# Altium footprint library ESC_PCB.PcbLib: 30 footprints (part 1 of 2)
Each footprint in its own frame and in the unit in brackets; x right, y up, seen from the top. Pads: shape width x height; smd on the part's side, far side on the other; paste and mask are expansions set on the pad; w line width, h text height; cw(c..) or ccw(c..) is an arc to the next point about the centre after c.
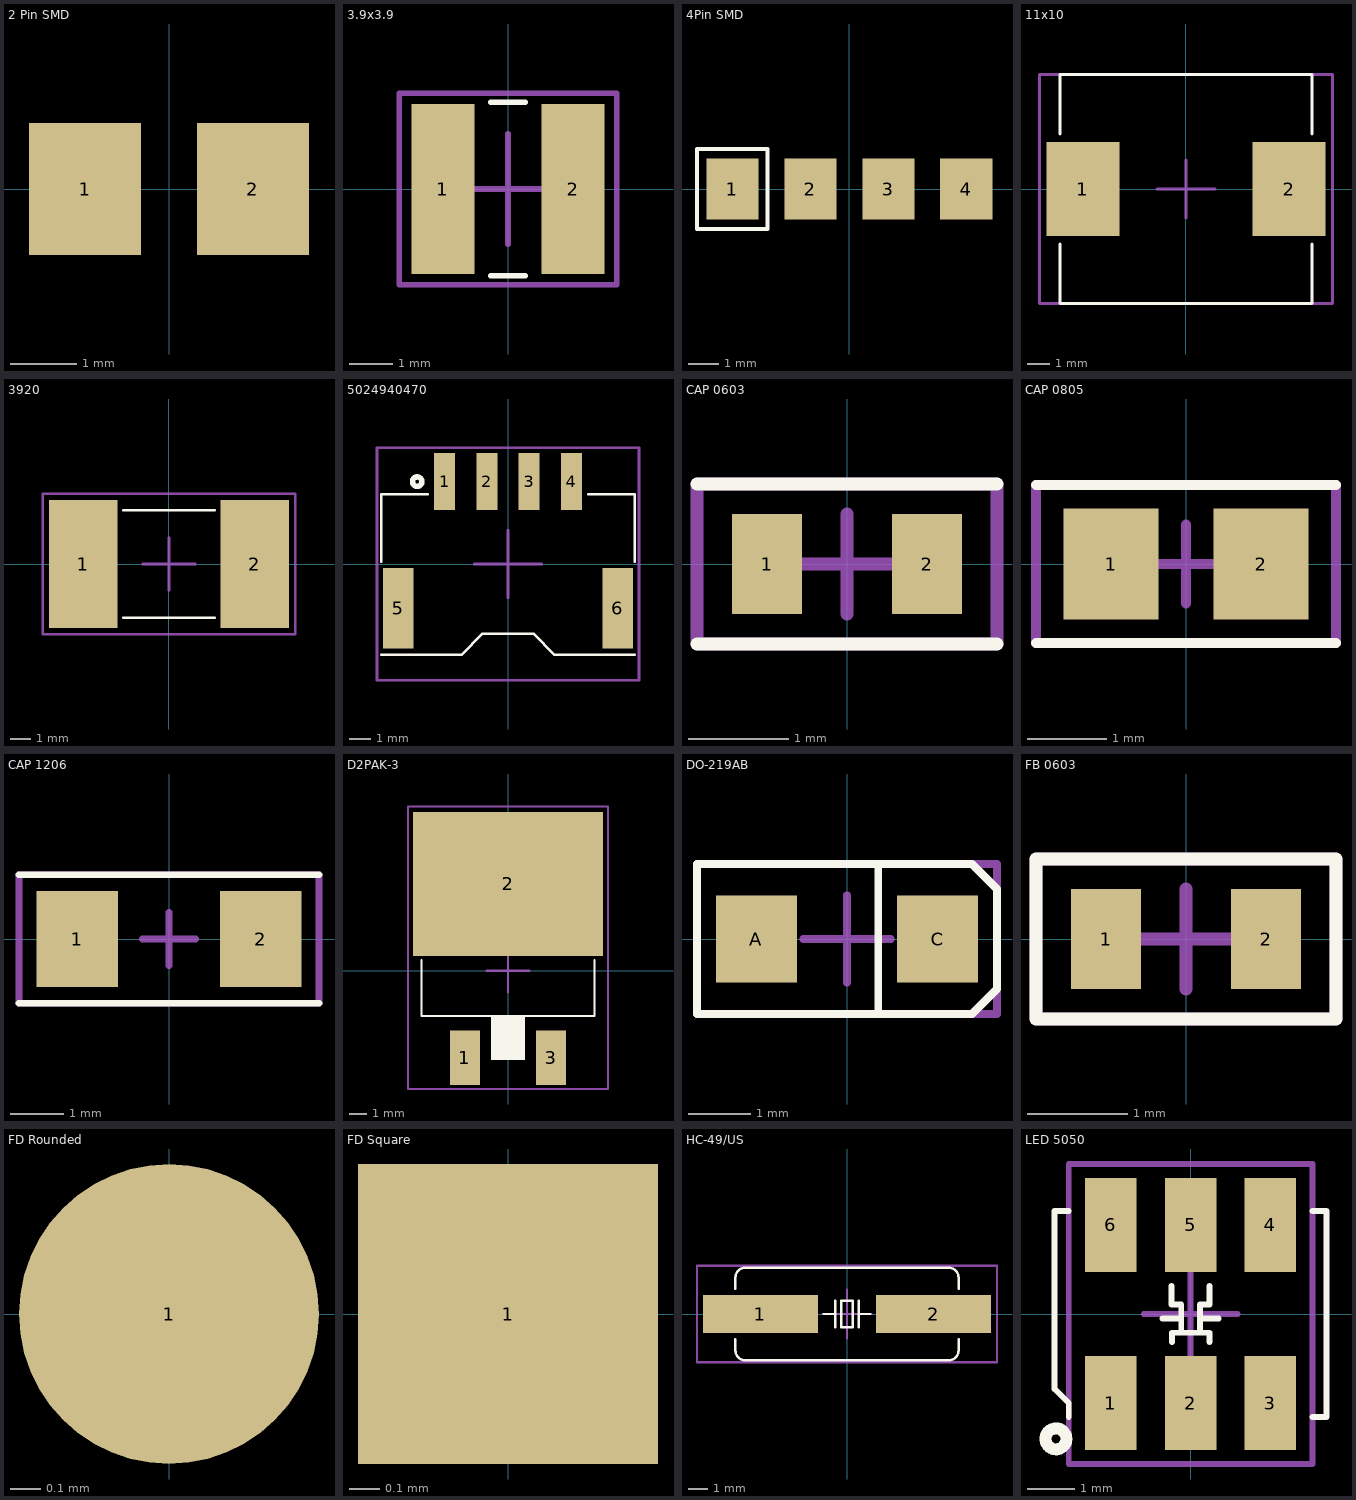
[diagram p0: the footprints below, top view; thin cyan lines are the x and y axes]

## 2 Pin SMD [mm]
pads (2):
  rect 1.7x2 smd: 1(-1.27,0) 2(1.27,0)

## 3.9x3.9 [mm]
pads (2):
  rect 1.45x3.9 smd: 1(-1.5,0) 2(1.5,0)
Top Overlay:
  lines w0.127: -0.4,-2 0,-2 0.4,-2 ; -0.4,2 0,2 0.4,2
Top Component Center:
  lines w0.127: -1.27,0 0,0 ; 0,-1.27 0,0 ; 0,1.27 0,0 ; 1.27,0 0,0 ; -2.5,-2.2 0,-2.2 2.5,-2.2 2.5,0 2.5,2.2 0,2.2 -2.5,2.2 -2.5,0 -2.5,-2.2
Top Designator:
  lines w0.127: -2.5,-2.2 -2.5,0 -2.5,2.2 0,2.2 2.5,2.2 2.5,0 2.5,-2.2 0,-2.2 -2.5,-2.2
  text ".Designator" at -0.748,-0.294 h0.76
3D body "LPS4018-183MRC.STEP": height 1.8, standoff 0, extent -1.95,-1.95 1.95,1.95

## 4Pin SMD [mm]
pads (4):
  rect 1.7x2 smd: 1(-3.81,0) 2(-1.27,0) 3(1.27,0) 4(3.81,0)
Top Overlay:
  lines w0.127: -4.965,-1.3 -2.665,-1.3 -2.665,0 -2.665,1.3 -4.965,1.3 -4.965,0 -4.965,-1.3

## 11x10 [mm]
pads (2):
  rect 3.2x4.1 smd: 1(-4.5,0) 2(4.5,0)
Top Overlay:
  lines w0.127: -5.5,-2.4 -5.5,-5 0,-5 5.5,-5 5.5,-2.4 ; -5.5,2.4 -5.5,5 0,5 5.5,5 5.5,2.4
Top Component Center:
  lines w0.127: -1.27,0 0,0 ; 0,-1.27 0,0 ; 0,1.27 0,0 ; 1.27,0 0,0 ; -6.4,-5 -6.4,0 -6.4,5 0,5 6.4,5 6.4,0 6.4,-5 0,-5 -6.4,-5
Top Designator:
  lines w0.127: -6.4,-5 -6.4,0 -6.4,5 0,5 6.4,5 6.4,0 6.4,-5 0,-5 -6.4,-5
  text ".Designator" at -1.048,-0.294 h0.76
3D body "WE-LHMI_1040+(rev1).stp": height 3.7, standoff -0.1, extent -5.5,-5 5.5,5

## 3920 [mm]
pads (2):
  rect 3.3x6.2 smd: 1(-4.15,0) 2(4.15,0)
Top Overlay:
  lines w0.127: -2.2,-2.6 0,-2.6 2.2,-2.6 ; -2.2,2.6 0,2.6 2.2,2.6
Top Component Center:
  lines w0.127: -1.27,0 0,0 ; 0,-1.27 0,0 ; 0,1.27 0,0 ; 1.27,0 0,0 ; -6.1,-3.4 -6.1,0 -6.1,3.4 0,3.4 6.1,3.4 6.1,0 6.1,-3.4 0,-3.4 -6.1,-3.4
Top Designator:
  lines w0.127: -6.1,-3.4 0,-3.4 6.1,-3.4 6.1,0 6.1,3.4 0,3.4 -6.1,3.4 -6.1,0 -6.1,-3.4
  text ".Designator" at -0.648,-0.194 h0.76
3D body "PSR400ITQFF0L50.STEP": height 1.45, standoff 0, extent -5,-2.6 5,2.6

## 5024940470 [mm]
pads (6):
  rect 1x2.7 smd: 1(-3,3.9) 2(-1,3.9) 3(1,3.9) 4(3,3.9)
  rect 1.45x3.8 smd: 5(-5.2,-2.1) 6(5.2,-2.1)
Top Overlay:
  circle w0.254: c-4.3,3.9 r0.224
  lines w0.127: -6,-4.3 -2.2,-4.3 -1.2,-3.3 0.05,-3.3 ; -6,0.1 -6,2.9 -6,3.3 -5.1,3.3 -3.8,3.3 ; -0.05,-3.3 1.2,-3.3 2.2,-4.3 6,-4.3 ; 3.8,3.3 5.1,3.3 6,3.3 6,2.9 6,0.1
Top Component Center:
  lines w0.127: -1.6,0 0,0 ; 0,-1.6 0,0 ; 0,1.6 0,0 ; 1.6,0 0,0 ; -6.2,-5.5 -6.2,0 -6.2,5.5 0,5.5 6.2,5.5 6.2,0 6.2,-5.5 0,-5.5 -6.2,-5.5
Top Designator:
  lines w0.127: -6.2,-5.5 0,-5.5 6.2,-5.5 6.2,0 6.2,5.5 0,5.5 -6.2,5.5 -6.2,0 -6.2,-5.5
  text ".Designator" at -0.748,-0.194 h0.76
3D body "5024940470.stp": height 6.9, standoff 0, extent -6,-4.25 6,4.25

## CAP 0603 [mm]
pads (2):
  rect 0.7x1 smd: 1(-0.8,0) 2(0.8,0)
Top Overlay:
  lines w0.127: -1.5,-0.8 1.5,-0.8 ; -1.5,0.8 1.5,0.8
Top Component Center:
  lines w0.127: -0.5,0 0,0 ; 0,-0.5 0,0 ; 0,0.5 0,0 ; 0.5,0 0,0 ; -1.5,-0.8 -1.5,0.8 1.5,0.8 1.5,-0.8 -1.5,-0.8
Top Designator:
  lines w0.127: -1.5,-0.8 1.5,-0.8 1.5,0.8 -1.5,0.8 -1.5,-0.8
  text ".Designator" at -0.748,-0.294 h0.76
3D body "GRM188R60J226MEA0J.step": height 1, standoff 0, extent -0.8,-0.4 0.8,0.4

## CAP 0805 [mm]
pads (2):
  rect 1.2x1.4 smd: 1(-0.95,0) 2(0.95,0)
Top Overlay:
  lines w0.127: -1.9,-1 0,-1 1.9,-1 ; -1.9,1 0,1 1.9,1
Top Component Center:
  lines w0.127: -0.5,0 0,0 ; 0,-0.5 0,0 ; 0,0.5 0,0 ; 0.5,0 0,0 ; -1.9,-1 1.9,-1 1.9,1 0,1 -1.9,1 -1.9,-1
Top Designator:
  lines w0.127: -1.9,-1 1.9,-1 1.9,1 0,1 -1.9,1 -1.9,-1
  text ".Designator" at -0.748,-0.294 h0.76
3D body "CL21A106KOQNNNG.step": height 1.35, standoff 0, extent -1,-0.625 1,0.625

## CAP 1206 [mm]
pads (2):
  rect 1.52x1.8 smd: 1(-1.71,0) 2(1.71,0)
Top Overlay:
  lines w0.127: -2.8,-1.2 0,-1.2 2.8,-1.2 ; -2.8,1.2 0,1.2 2.8,1.2
Top Component Center:
  lines w0.127: -0.5,0 0,0 ; 0,-0.5 0,0 ; 0,0.5 0,0 ; 0.5,0 0,0 ; -2.8,-1.2 2.8,-1.2 2.8,1.2 -1.7,1.2 -2.8,1.2 -2.8,-1.2
Top Designator:
  lines w0.127: -2.8,-1.2 2.8,-1.2 2.8,1.2 -1.7,1.2 -2.8,1.2 -2.8,-1.2
  text ".Designator" at -0.548,-0.194 h0.76
3D body "GRM31C5C1H224JE02L.STEP": height 1.8, standoff 0, extent -1.6,-0.8 1.6,0.8

## D2PAK-3 [mm]
pads (3):
  rect 1.75x3.2 smd: 1(-2.54,-5.125) 3(2.54,-5.125)
  rect 11.2x8.5 smd: 2(0,5.125)
Top Overlay:
  rectangle: -1,-5.275 1,-2.675
  lines w0.127: -5.1,0.625 -5.1,-2.675 0,-2.675 5.1,-2.675 5.1,0.625
Top Component Center:
  lines w0.127: -1.27,0 0,0 ; 0,-1.27 0,0 ; 0,1.27 0,0 ; 1.27,0 0,0 ; -5.9,-6.975 0,-6.975 5.9,-6.975 5.9,0 5.9,9.7 2.725,9.7 -5.9,9.7 -5.9,0 -5.9,-6.975
Top Designator:
  lines w0.127: -5.9,-6.975 0,-6.975 5.9,-6.975 5.9,0 5.9,9.7 2.725,9.7 -5.9,9.7 -5.9,0 -5.9,-6.975
  text ".Designator" at -0.648,-0.294 h0.76
3D body "NCV7805BD2TR4G.STEP": height 4.57, standoff 0, extent -5.01,-6.274 5.01,7.924

## DO-219AB [mm]
pads (2):
  rect 1.3x1.4 smd: A(-1.45,0) C(1.45,0)
Top Overlay:
  lines w0.127: 0.4,1.2 0.5,1.2 0.5,-1.2 ; -2.4,-1.2 -1.8,-1.2 0,-1.2 2,-1.2 2.4,-0.8 2.4,-0.6 2.4,0.8 2,1.2 0,1.2 -1.8,1.2 -2.4,1.2 -2.4,-1.2
Top Component Center:
  lines w0.127: -0.7,0 0,0 ; 0,-0.7 0,0 ; 0,0.7 0,0 ; 0.7,0 0,0 ; -2.4,-1.2 -2.4,1.2 2.4,1.2 2.4,-1.2 -2.4,-1.2
Top Designator:
  lines w0.127: -2.4,-1.2 -2.4,1.2 2.4,1.2 2.4,-1.2 -2.4,-1.2
  text ".Designator" at -0.648,-0.194 h0.76
3D body "SL02-GS08.STEP": height 1.08, standoff 0, extent -1.85,-0.9 1.85,0.9

## FB 0603 [mm]
pads (2):
  rect 0.7x1 smd: 1(-0.8,0) 2(0.8,0)
Top Overlay:
  lines w0.127: -1.5,-0.8 0,-0.8 1.5,-0.8 1.5,0 1.5,0.8 0,0.8 -1.5,0.8 -1.5,0 -1.5,-0.8
Top Component Center:
  lines w0.127: -0.5,0 0,0 ; 0,-0.5 0,0 ; 0,0.5 0,0 ; 0.5,0 0,0 ; -1.5,-0.8 -1.5,0.8 1.5,0.8 1.5,-0.8 -1.5,-0.8
Top Designator:
  lines w0.127: -1.5,-0.8 -1.5,0.8 1.5,0.8 1.5,-0.8 -1.5,-0.8
  text ".Designator" at -0.748,-0.294 h0.76
3D body "BEADC1608X75N.step": height 0.75, standoff 0, extent -0.8,-0.4 0.8,0.4

## FD Rounded [mm]
pads (1):
  round 1 smd paste-1 mask+1: 1(0,0)

## FD Square [mm]
pads (1):
  rect 1x1 smd paste-1 mask+1: 1(0,0)

## HC-49/US [mm]
pads (2):
  rect 6x2 smd: 1(-4.5,0) 2(4.5,0)
Top Overlay:
  lines w0.127: -5.8,-1.3 -5.8,-1.9 ccw(c-5.3,-1.9) -5.3,-2.4 -1.5,-2.4 0,-2.4 1.5,-2.4 5.3,-2.4 ccw(c5.3,-1.9) 5.8,-1.9 5.8,-1.3 ; -5.8,1.3 -5.8,1.9 cw(c-5.3,1.9) -5.3,2.4 -1.5,2.4 0,2.4 1.5,2.4 5.3,2.4 cw(c5.3,1.9) 5.8,1.9 5.8,1.3 ; -1.2,0 -0.6,0 ; -0.6,-0.7 -0.6,0 ; -0.6,0.7 -0.6,0 ; 0.6,-0.7 0.6,0 ; 0.6,0.7 0.6,0 ; 1.2,0 0.6,0 ; -0.3,-0.7 0,-0.7 0.3,-0.7 0.3,0.7 0,0.7 -0.3,0.7 -0.3,-0.7
Top Component Center:
  lines w0.127: -1.27,0 0,0 ; 0,-1.27 0,0 ; 0,1.27 0,0 ; 1.27,0 0,0 ; -7.8,-2.5 -7.8,0 -7.8,2.5 0,2.5 7.8,2.5 7.8,0 7.8,-2.5 0,-2.5 -7.8,-2.5
Top Designator:
  lines w0.127: -7.8,-2.5 0,-2.5 7.8,-2.5 7.8,0 7.8,2.5 0,2.5 -7.8,2.5 -7.8,0 -7.8,-2.5
  text ".Designator" at -0.948,-0.294 h0.76
3D body "ABLS2-32.000MHZ-D4YF-T--3DModel-STEP-400430.STEP": height 3.16, standoff -0.1, extent -6.35,-2.349 6.35,2.349

## LED 5050 [mm]
pads (6):
  rect 1.1x2 smd: 1(-1.7,-1.9) 2(0,-1.9) 3(1.7,-1.9) 4(1.7,1.9) 5(0,1.9) 6(-1.7,1.9)
Top Overlay:
  circle w0.254: c-2.873,-2.663 r0.224
  lines w0.127: -2.6,-2.2 -2.6,-1.9 -2.9,-1.6 -2.9,0 -2.9,2.2 -2.6,2.2 ; -0.6,-0.1 -0.2,-0.1 ; -0.403,0.6 -0.403,0.2 -0.2,0.2 -0.2,-0.4 ; -0.4,-0.6 -0.4,-0.4 0,-0.4 0.4,-0.4 0.4,-0.6 ; 0.2,-0.4 0.2,0.2 0.404,0.2 0.404,0.6 ; 0.2,-0.1 0.6,-0.1 ; 2.6,-2.2 2.9,-2.2 2.9,0 2.9,2.2 2.6,2.2
Top Component Center:
  lines w0.127: -1,0 0,0 ; 0,-1 0,0 ; 0,1 0,0 ; 1,0 0,0 ; -2.6,-3.2 0,-3.2 2.6,-3.2 2.6,0 2.6,3.2 0,3.2 -2.6,3.2 -2.6,0 -2.6,-3.2
Top Designator:
  lines w0.127: -2.6,-3.2 0,-3.2 2.6,-3.2 2.6,0 2.6,3.2 0,3.2 -2.6,3.2 -2.6,0 -2.6,-3.2
  text ".Designator" at -0.548,-0.294 h0.76
3D body "User Library-5050 RGB led.STEP": height 1.6, standoff 0, extent -2.55,-2.77 2.55,2.77